# Altium footprint library 二极管.PcbLib: 21 footprints (part 1 of 2)
Each footprint in its own frame and in the unit in brackets; x right, y up, seen from the top. Pads: shape width x height; smd on the part's side, far side on the other; paste and mask are expansions set on the pad; w line width, h text height; cw(c..) or ccw(c..) is an arc to the next point about the centre after c.
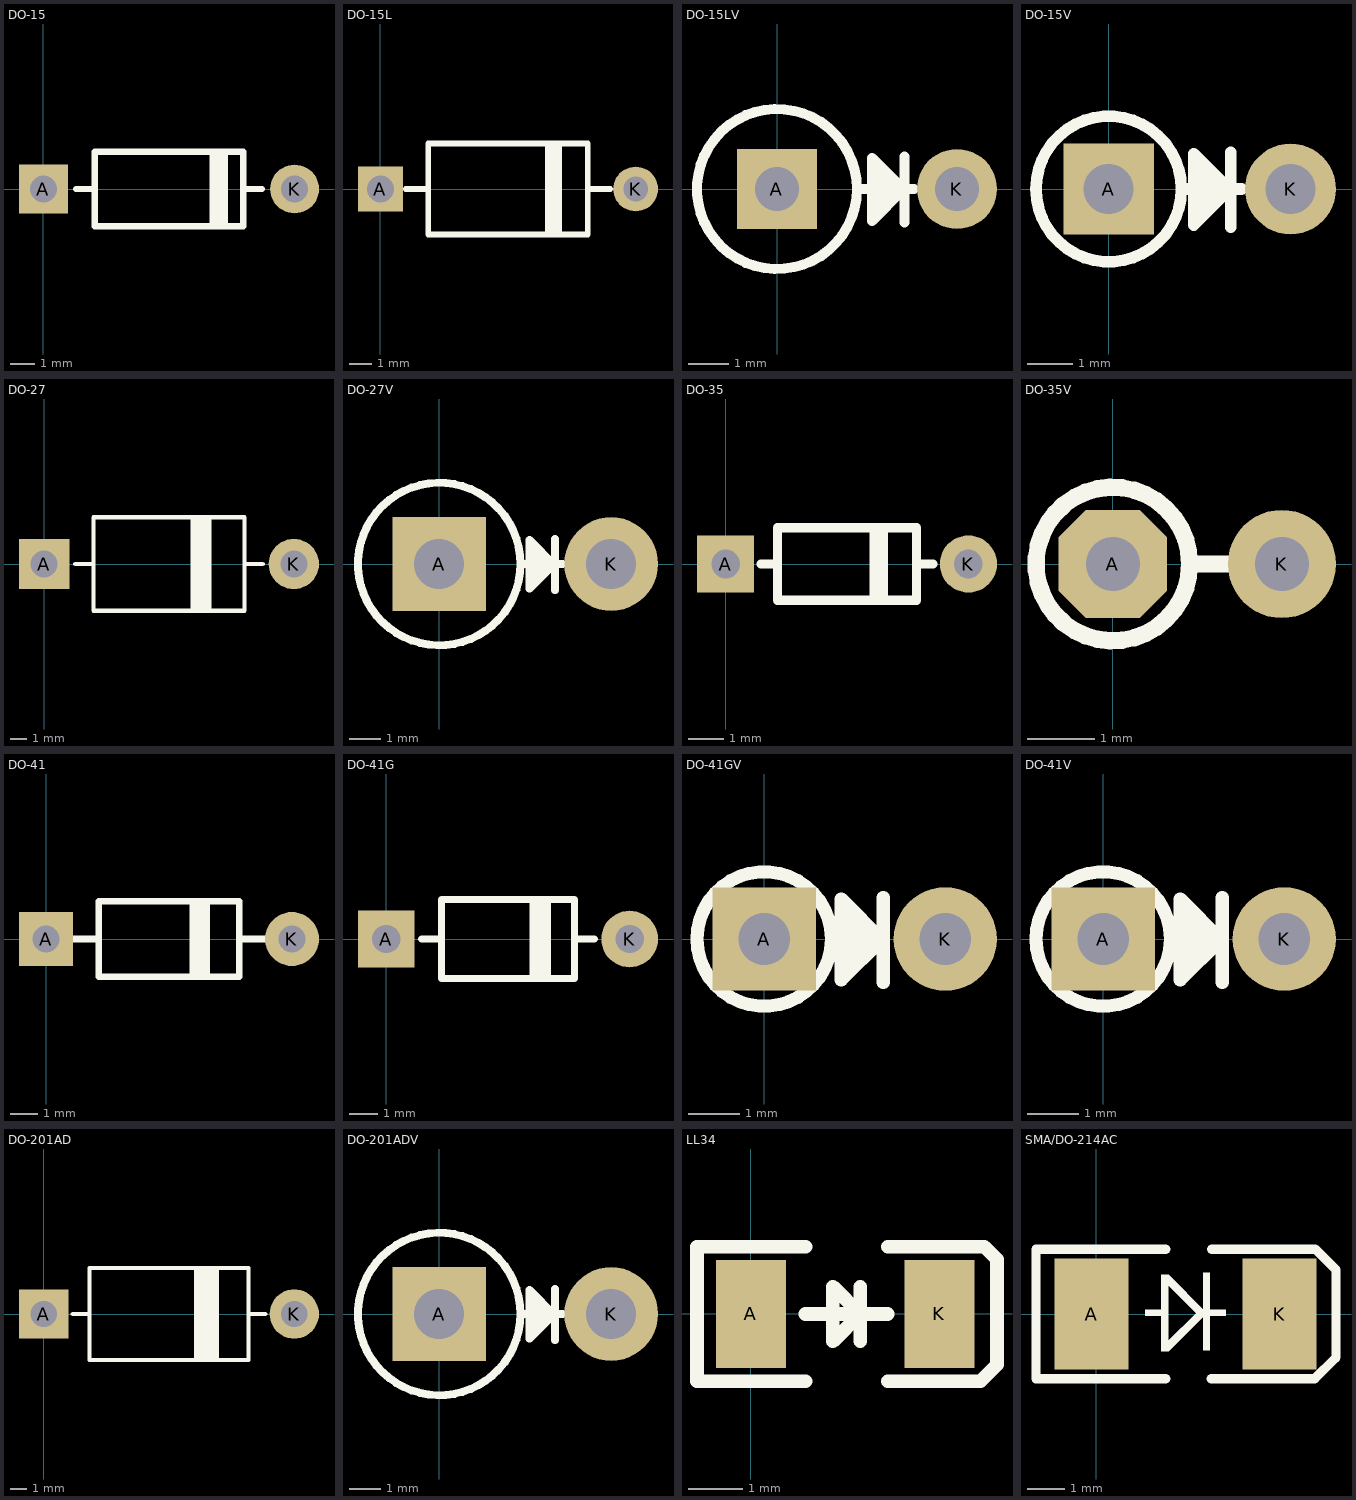
[diagram p0: the footprints below, top view; thin cyan lines are the x and y axes]

## DO-15 [mm]
pads (2):
  rect 2x2 hole 1.1: A(0,0)
  round 2 hole 1.1: K(10.3,0)
Top Overlay:
  lines w0.254: 1.34,0 2.102,0 ; 6.928,-1.524 6.928,1.524 ; 7.182,-1.524 7.182,1.524 ; 7.436,-1.524 7.436,1.524 ; 8.198,0 8.96,0 ; 2.102,-1.524 2.102,1.524 8.198,1.524 8.198,-1.524 2.102,-1.524
3D body "DO-15.STEP": height 3.35, standoff -3.45, extent -0.343,-1.651 10.757,1.651

## DO-15L [mm]
pads (2):
  rect 2x2 hole 1.2: A(0,0)
  round 2 hole 1.1: K(11.4,0)
Top Overlay:
  lines w0.254: 1.128,0 2.144,0 ; 7.478,-2.032 7.478,2.032 ; 7.732,-2.032 7.732,2.032 ; 7.986,-2.032 7.986,2.032 ; 9.256,0 10.272,0 ; 2.144,-2.032 2.144,2.032 9.256,2.032 9.256,-2.032 2.144,-2.032
3D body "DO-15L.STEP": height 4.05, standoff -3.45, extent -0.512,-1.97 11.688,2.032

## DO-15LV [mm]
pads (2):
  rect 2x2 hole 1.1: A(0,0)
  round 2 hole 1.1: K(4.5,0)
Top Overlay:
  circle w0.254: c0,0 r2
  lines w0.254: 2.108,0 3.429,0 ; 2.54,0.559 2.565,-0.432 3.048,0 2.794,0.254 2.794,0 2.794,-0.254 ; 3.15,-0.02 2.377,-0.792 2.377,0.775 3.19,-0.038 ; 3.19,-0.841 3.19,0.805
3D body "DO-15LV.STEP": height 9.45, standoff -3.45, extent -2.053,-2.032 4.847,1.97

## DO-15V [mm]
pads (2):
  rect 2x2 hole 1.1: A(0,0)
  round 2 hole 1.1: K(4,0)
Top Overlay:
  circle w0.254: c0,0 r1.6
  lines w0.254: 1.6,0 2.921,0 ; 2.032,0.559 2.057,-0.432 2.54,0 2.286,0.254 2.286,0 2.286,-0.254 ; 2.642,-0.02 1.869,-0.792 1.869,0.775 2.682,-0.038 ; 2.682,-0.841 2.682,0.805
3D body "DO-15V.STEP": height 8.35, standoff -3.45, extent -1.629,-1.651 4.423,1.651

## DO-27 [mm]
pads (2):
  rect 3x3 hole 1.6: A(0,0)
  round 3 hole 1.6: K(14.9,0)
Top Overlay:
  rectangle: 8.72,-2.794 9.99,2.794
  lines w0.254: 1.862,0 2.878,0 ; 12.022,0 13.038,0 ; 2.95,-2.794 2.95,2.794 11.95,2.794 11.95,-2.794 2.95,-2.794
3D body "DO-27.STEP": height 5.25, standoff -3.45, extent -0.607,-2.661 15.593,2.54

## DO-27V [mm]
pads (2):
  rect 3x3 hole 1.6: A(0,0)
  round 3 hole 1.6: K(5.5,0)
Top Overlay:
  circle w0.254: c0,0 r2.6
  lines w0.254: 2.616,0 3.698,0 ; 3.048,0.559 3.073,-0.432 3.556,0 ; 3.302,-0.254 3.302,0 3.302,0.254 3.556,0 ; 3.658,-0.02 2.885,-0.792 2.885,0.775 3.698,-0.038 ; 3.698,-0.841 3.698,0.805 ; 3.937,0 3.556,0
3D body "DO-27V.STEP": height 11.7, standoff -3.45, extent -2.598,-2.534 6.154,2.667

## DO-35 [mm]
pads (2):
  rect 1.6x1.6 hole 0.8: A(0,0)
  round 1.6 hole 0.8: K(6.8,0)
Top Overlay:
  rectangle: 4.035,-1.016 4.543,1.016
  lines w0.254: 0.987,0 1.45,0 ; 5.35,0 5.813,0 ; 1.45,-1.016 5.35,-1.016 5.35,1.016 1.45,1.016 1.45,-1.016
3D body "DO-35.STEP": height 1.85, standoff -3.45, extent -0.221,-0.889 7.079,0.913

## DO-35V [mm]
pads (2):
  oct 1.6x1.6 hole 0.8: A(0,0)
  round 1.6 hole 0.8: K(2.5,0)
Top Overlay:
  circle w0.254: c0,0 r1.136
  lines w0.254: 1.136,0 1.778,0
3D body "DO-35V.STEP": height 5.15, standoff -3.5, extent -0.81,-0.913 2.842,0.889

## DO-41 [mm]
pads (2):
  rect 2x2 hole 1: A(0,0)
  round 2 hole 1: K(9.1,0)
Top Overlay:
  rectangle: 5.312,-1.397 6.074,1.397
  lines w0.254: 0.994,0 1.95,0 ; 7.15,0 8.106,0 ; 1.95,-1.397 7.15,-1.397 7.15,1.397 1.95,1.397 1.95,-1.397
3D body "DO-41.STEP": height 2.65, standoff -3.45, extent -0.378,-1.332 9.522,1.27

## DO-41G [mm]
pads (2):
  rect 2x2 hole 1: A(0,0)
  round 2 hole 1: K(8.6,0)
Top Overlay:
  rectangle: 5.062,-1.397 5.824,1.397
  lines w0.254: 1.252,0 1.954,0 ; 6.646,0 7.348,0 ; 1.95,-1.397 1.95,1.397 6.65,1.397 6.65,-1.397 1.95,-1.397
3D body "DO-41G.STEP": height 2.55, standoff -3.45, extent -0.509,-1.232 8.891,1.27

## DO-41GV [mm]
pads (2):
  rect 2x2 hole 1: A(0,0)
  round 2 hole 1: K(3.5,0)
Top Overlay:
  circle w0.254: c0,0 r1.3
  lines w0.254: 1.651,0.559 1.676,-0.432 2.159,0 1.905,0.254 1.905,0 1.905,-0.254 ; 2.261,-0.02 1.488,-0.792 1.488,0.775 2.301,-0.038 ; 2.301,-0.841 2.301,0.805
3D body "DO-41GV.STEP": height 6.4, standoff -3.5, extent -1.27,-1.27 3.881,1.232

## DO-41V [mm]
pads (2):
  rect 2x2 hole 1: A(0,0)
  round 2 hole 1: K(3.5,0)
Top Overlay:
  circle w0.254: c0,0 r1.3
  lines w0.254: 1.651,0.559 1.676,-0.432 2.159,0 1.905,0.254 1.905,0 1.905,-0.254 ; 2.261,-0.02 1.488,-0.792 1.488,0.775 2.301,-0.038 ; 2.301,-0.841 2.301,0.805
3D body "DO-41V.STEP": height 6.9, standoff -3.5, extent -1.331,-1.332 3.871,1.27

## DO-201AD [mm]
pads (2):
  rect 3x3 hole 1.6: A(0,0)
  round 3 hole 1.6: K(15.2,0)
Top Overlay:
  rectangle: 9.124,-2.794 10.648,2.794
  lines w0.254: 1.758,0 2.774,0 ; 12.426,0 13.442,0 ; 2.774,-2.794 12.426,-2.794 12.426,2.794 2.774,2.794 2.774,-2.794
3D body "DO-201AD.STEP": height 5.25, standoff -3.45, extent -0.63,-2.54 15.87,2.661

## DO-201ADV [mm]
pads (2):
  rect 3x3 hole 1.6: A(0,0)
  round 3 hole 1.6: K(5.5,0)
Top Overlay:
  circle w0.254: c0,0 r2.6
  lines w0.254: 2.616,0 3.698,0 ; 3.048,0.559 3.073,-0.432 3.556,0 ; 3.302,-0.254 3.302,0 3.302,0.254 3.556,0 ; 3.658,-0.02 2.885,-0.792 2.885,0.775 3.698,-0.038 ; 3.698,-0.841 3.698,0.805 ; 3.937,0 3.556,0
3D body "DO-201ADV.STEP": height 12, standoff -3.45, extent -2.598,-2.667 6.154,2.534

## LL34 [mm] "玻封二极管"
pads (2):
  rect 1.3x2 smd: A(0,0) K(3.5,0)
Top Overlay:
  lines w0.254: 1.016,-1.25 -1,-1.25 -1,1.25 1.016,1.25 ; 1.016,0 2.54,0 ; 2.032,-0.508 2.032,0.508 ; 2.54,-1.25 4.266,-1.25 ; 2.54,1.25 4.338,1.25 ; 3.556,-1.25 4.266,-1.25 ; 4.064,1.25 4.338,1.25 ; 4.266,-1.25 4.572,-0.944 ; 4.266,-1.25 4.572,-0.944 ; 4.338,1.25 4.572,1.016 4.572,-0.944 ; 1.524,-0.508 1.524,0.508 2.032,0 1.524,-0.508
3D body "SOD-80.STEP": height 1.5, standoff 0, extent -0.099,-0.75 3.401,0.75

## SMA/DO-214AC [mm] "塑封二极管"
pads (2):
  rect 2x3 smd: A(-0.127,0) K(4.953,0)
Top Overlay:
  region: 2.962,-0.012 2.809,0.141 1.804,-0.864 1.957,-1.017
  rectangle: 1.753,-1.016 1.956,1.067
  rectangle: 2.883,-0.991 3.073,1.118
  region: 1.778,-0.051 1.778,0.127 1.321,0.127 1.321,-0.051
  region: 2.808,-0.091 2.961,0.062 1.956,1.067 1.803,0.914
  region: 3.505,-0.051 3.505,0.127 3.023,0.127 3.023,-0.051
  lines w0.254: 1.873,-1.75 -1.627,-1.75 -1.627,1.75 1.873,1.75 ; 3.103,-1.753 3.105,-1.75 5.668,-1.75 5.899,-1.75 6.456,-1.194 6.477,-1.172 6.477,1.194 5.921,1.75 5.69,1.75 3.127,1.75 3.124,1.753
3D body "DO-214AC.STEP": height 2.4, standoff 0, extent 0.113,-1.35 4.713,1.35